# EAGLE library part MC34063A_S08 (library PWM Stabilizators)
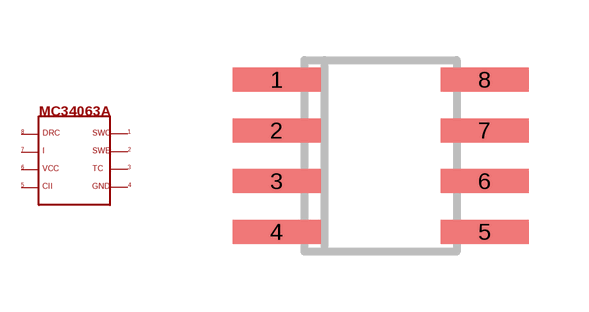
[diagram p0: symbol with the pads of SO08; footprint SO08]

Designator prefix -

## MC34063A_S08  [SO08]
1  SWC
2  SWE
3  TC
4  GND
5  CII
6  VCC
7  I
8  DRC

## Footprint SO08 (pad centres in mm)
SMALL OUTLINE INTEGRATED CIRCUIT body 3.9 mm/JEDEC MS-012AA
smd 2.2 x 0.6: 1 -2.6,1.905; 2 -2.6,0.635; 3 -2.6,-0.635; 4 -2.6,-1.905; 5 2.6,-1.905; 6 2.6,-0.635; 7 2.6,0.635; 8 2.6,1.905